# EAGLE library part ADAFRUIT_SENSOR_PCF8574 (library Lemming v3)
I2C-Bus Remote 8-bit I/O expander http://www.semiconductors.philips.com/acrobat_download/datasheets/PCF8574_4.pdf
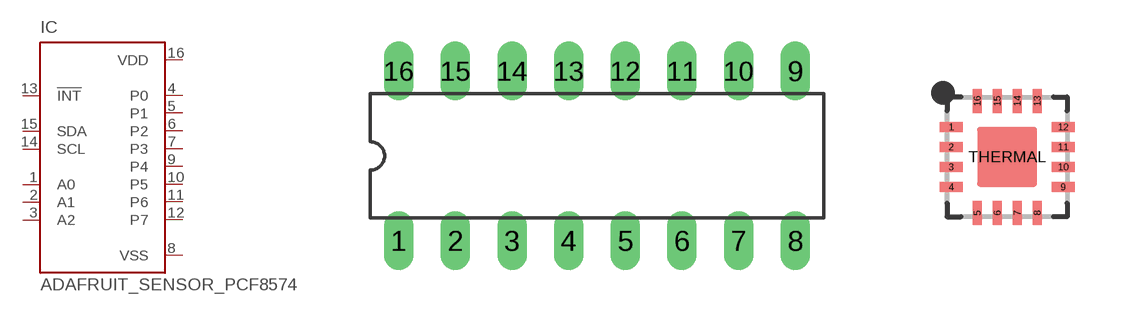
[diagram p2: symbol with the pads of ADAFRUIT_SENSOR_DIL16; footprints ADAFRUIT_SENSOR_DIL16, ADAFRUIT_SENSOR_QFN16_3MM]

Designator prefix IC

## ADAFRUIT_SENSOR_PCF8574P (MPN: PCF8574PN; OC_FARNELL: 204020; OC_NEWARK: 11N8515)  [ADAFRUIT_SENSOR_DIL16]
1  A0  in
2  A1  in
3  A2  in
4  P0
5  P1
6  P2
7  P3
8  VSS  pwr
9  P4
10  P5
11  P6
12  P7
13  !INT  out
14  SCL  in
15  SDA
16  VDD  pwr

## ADAFRUIT_SENSOR_PCF8574RGT  [ADAFRUIT_SENSOR_QFN16_3MM]
1  VDD  pwr
2  A0  in
3  A1  in
4  A2  in
5  P0
6  P1
7  P2
8  P3
9  VSS  pwr
10  P4
11  P5
12  P6
13  P7
14  !INT  out
15  SCL  in
16  SDA
THERMAL  VSS  pwr

## ADAFRUIT_SENSOR_PCF8574RGY  [ADAFRUIT_SENSOR_VQFN20_3.5X4.5]
1  !INT  out
2  SCL  in
4  SDA
5  VDD  pwr
6  A0  in
7  A1  in
9  A2  in
10  P0
11  P1
12  P2
14  P3
15  VSS  pwr
16  P4
17  P5
19  P6
20  P7
21  VSS  pwr

## ADAFRUIT_SENSOR_PCF8574T (MPN: PCF8574T/3,512; OC_FARNELL: 1201255; OC_NEWARK: 70R6870)  [ADAFRUIT_SENSOR_SO16W]
Pads as for ADAFRUIT_SENSOR_DIL16

## ADAFRUIT_SENSOR_PCF8574TS (MPN: PCF8574TS/3,118; OC_FARNELL: 1506644; OC_NEWARK: 70R6873)  [ADAFRUIT_SENSOR_SSOP20]
1  !INT  out
2  SCL  in
4  SDA
5  VDD  pwr
6  A0  in
7  A1  in
9  A2  in
10  P0
11  P1
12  P2
14  P3
15  VSS  pwr
16  P4
17  P5
19  P6
20  P7

## Footprint ADAFRUIT_SENSOR_DIL16 (pad centres in mm)
Dual In Line
drill 0.813 long: 1 -8.89,-3.81; 2 -6.35,-3.81; 3 -3.81,-3.81; 4 -1.27,-3.81; 5 1.27,-3.81; 6 3.81,-3.81; 7 6.35,-3.81; 8 8.89,-3.81; 9 8.89,3.81; 10 6.35,3.81; 11 3.81,3.81; 12 1.27,3.81; 13 -1.27,3.81; 14 -3.81,3.81; 15 -6.35,3.81; 16 -8.89,3.81

## Footprint ADAFRUIT_SENSOR_QFN16_3MM (pad centres in mm)
smd 0.6 x 0.25: 1 -1.4,0.75; 2 -1.4,0.25; 3 -1.4,-0.25; 4 -1.4,-0.75; 9 1.4,-0.75; 10 1.4,-0.25; 11 1.4,0.25; 12 1.4,0.75
smd 0.25 x 0.6: 5 -0.75,-1.4; 6 -0.25,-1.4; 7 0.25,-1.4; 8 0.75,-1.4; 13 0.75,1.4; 14 0.25,1.4; 15 -0.25,1.4; 16 -0.75,1.4
smd 1.5 x 1.5: THERMAL 0,0

## Footprint ADAFRUIT_SENSOR_VQFN20_3.5X4.5 (pad centres in mm)
smd 0.26 x 0.79: 1 -0.75,2.15; 10 -0.75,-2.15; 11 0.75,-2.15; 20 0.75,2.15
smd 0.79 x 0.26: 2 -1.65,1.75; 3 -1.65,1.25; 4 -1.65,0.75; 5 -1.65,0.25; 6 -1.65,-0.25; 7 -1.65,-0.75; 8 -1.65,-1.25; 9 -1.65,-1.75; 12 1.65,-1.75; 13 1.65,-1.25; 14 1.65,-0.75; 15 1.65,-0.25; 16 1.65,0.25; 17 1.65,0.75; 18 1.65,1.25; 19 1.65,1.75
smd 2.1 x 3.1: 21 0,0

## Footprint ADAFRUIT_SENSOR_SO16W (pad centres in mm)
Small Outline Package 7.6 x 10.6 mm
smd 0.6 x 2.2: 1 -4.445,-4.6; 2 -3.175,-4.6; 3 -1.905,-4.6; 4 -0.635,-4.6; 5 0.635,-4.6; 6 1.905,-4.6; 7 3.175,-4.6; 8 4.445,-4.6; 9 4.445,4.6; 10 3.175,4.6; 11 1.905,4.6; 12 0.635,4.6; 13 -0.635,4.6; 14 -1.905,4.6; 15 -3.175,4.6; 16 -4.445,4.6

## Footprint ADAFRUIT_SENSOR_SSOP20 (pad centres in mm)
plastic shrink small outline package 20 leads; body width 4.4 mm SOT266-1 Source: http://www.semiconductors.philips.com/acrobat_download/datasheets/PCF8574_4.pdf
smd 0.35 x 1.2: 1 -2.925,-2.85; 2 -2.275,-2.85; 3 -1.625,-2.85; 4 -0.975,-2.85; 5 -0.325,-2.85; 6 0.325,-2.85; 7 0.975,-2.85; 8 1.625,-2.85; 9 2.275,-2.85; 10 2.925,-2.85; 11 2.925,2.85; 12 2.275,2.85; 13 1.625,2.85; 14 0.975,2.85; 15 0.325,2.85; 16 -0.325,2.85; 17 -0.975,2.85; 18 -1.625,2.85; 19 -2.275,2.85; 20 -2.925,2.85